# EAGLE library part GIMECHIP-TRS-80-COCO-3-PROGRAM-PAK-CARTRIDGE_COCO3-CARTRIDGE-PLUG (library CC2-32K-EPROM-CARTRIDGE-2012-V2RA)
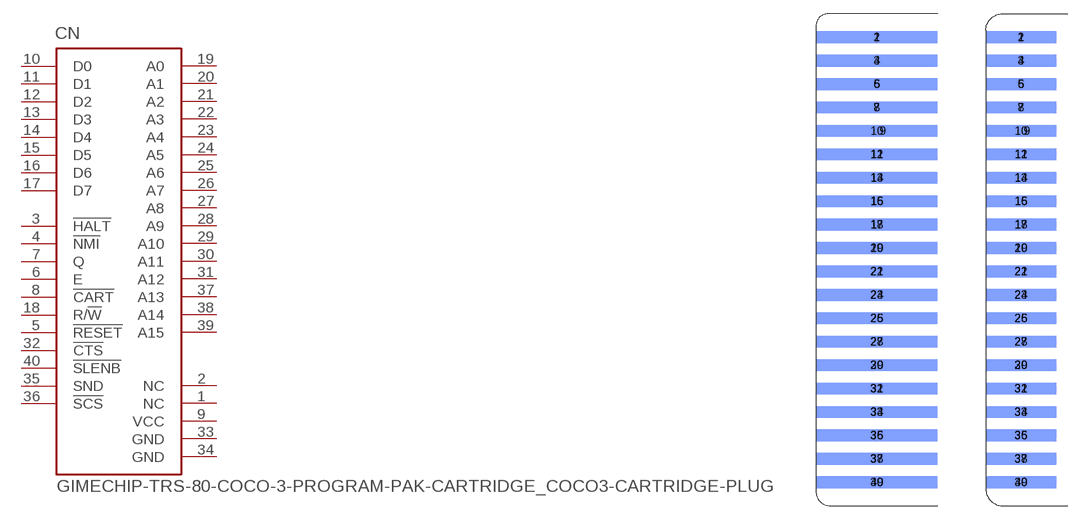
[diagram p1: symbol with the pads of GIMECHIP-TRS-80-COCO-3-PROGRAM-PAK-CARTRIDGE_EDGE-CARD-PLUG-2X20-100-LONG; footprints GIMECHIP-TRS-80-COCO-3-PROGRAM-PAK-CARTRIDGE_EDGE-CARD-PLUG-2X20-100-LONG, GIMECHIP-TRS-80-COCO-3-PROGRAM-PAK-CARTRIDGE_EDGE-CARD-PLUG-2X20-100-MEDIUM]

Designator prefix CN

## GIMECHIP-TRS-80-COCO-3-PROGRAM-PAK-CARTRIDGE_COCO3-CARTRIDGE-PLUG-LONG  [GIMECHIP-TRS-80-COCO-3-PROGRAM-PAK-CARTRIDGE_EDGE-CARD-PLUG-2X20-100-LONG]
1  NC  pas
2  NC  pas
3  !HALT
4  !NMI
5  !RESET
6  E  out
7  Q  out
8  !CART  in
9  VCC  pwr
10  D0
11  D1
12  D2
13  D3
14  D4
15  D5
16  D6
17  D7
18  R/!W
19  A0  out
20  A1  out
21  A2  out
22  A3  out
23  A4  pas
24  A5  out
25  A6  out
26  A7  out
27  A8  out
28  A9  out
29  A10  out
30  A11  out
31  A12  out
32  !CTS  out
33  GND  pwr
34  GND  pwr
35  SND  in
36  !SCS  out
37  A13  out
38  A14  out
39  A15  out
40  !SLENB  in

## GIMECHIP-TRS-80-COCO-3-PROGRAM-PAK-CARTRIDGE_COCO3-CARTRIDGE-PLUG-MEDIUM  [GIMECHIP-TRS-80-COCO-3-PROGRAM-PAK-CARTRIDGE_EDGE-CARD-PLUG-2X20-100-MEDIUM]
Pads as for GIMECHIP-TRS-80-COCO-3-PROGRAM-PAK-CARTRIDGE_EDGE-CARD-PLUG-2X20-100-LONG

## GIMECHIP-TRS-80-COCO-3-PROGRAM-PAK-CARTRIDGE_COCO3-CARTRIDGE-PLUG-SHORT  [GIMECHIP-TRS-80-COCO-3-PROGRAM-PAK-CARTRIDGE_EDGE-CARD-PLUG-2X20-100-SHORT]
Pads as for GIMECHIP-TRS-80-COCO-3-PROGRAM-PAK-CARTRIDGE_EDGE-CARD-PLUG-2X20-100-LONG

## Footprint GIMECHIP-TRS-80-COCO-3-PROGRAM-PAK-CARTRIDGE_EDGE-CARD-PLUG-2X20-100-LONG (pad centres in mm)
CoCo 3 Program Pak Cartridge Plug LONG - http://www.GIMEchip.com/ Tandy Radio Shack TRS-80 Color Computer 3 Program Pak Cartridge Plug (Edge-Card) LONG E.A.G.L.E. Library Part created by John Eric Turner & His Father - sales@gimechip.com <mailto:sales@gimechip.com?subject=Tandy Radio Shack TRS- 80 Color Computer 3 Program Pak Cartridge Plug (Edge-Card) E.A.G.L.E. Library Part> 40-Pin Edge-Card sharing the same pinout as the Program Pak Cartridge Edge-Card Connector.
smd 13.107 x 1.27: 1 7.62,22.86; 3 7.62,20.32; 5 7.62,17.78; 7 7.62,15.24; 11 7.62,10.16; 13 7.62,7.62; 15 7.62,5.08; 17 7.62,2.54; 19 7.62,0; 21 7.62,-2.54; 23 7.62,-5.08; 25 7.62,-7.62; 27 7.62,-10.16; 29 7.62,-12.7; 31 7.62,-15.24; 33 7.62,-17.78; 35 7.62,-20.32; 37 7.62,-22.86; 39 7.62,-25.4
smd 13.107 x 1.27 bottom: 2 7.62,22.86; 4 7.62,20.32; 6 7.62,17.78; 8 7.62,15.24; 10 7.62,12.7; 12 7.62,10.16; 14 7.62,7.62; 16 7.62,5.08; 18 7.62,2.54; 20 7.62,0; 22 7.62,-2.54; 24 7.62,-5.08; 26 7.62,-7.62; 28 7.62,-10.16; 30 7.62,-12.7; 32 7.62,-15.24; 34 7.62,-17.78; 36 7.62,-20.32; 38 7.62,-22.86; 40 7.62,-25.4
smd 11.43 x 1.27: 9 8.255,12.7

## Footprint GIMECHIP-TRS-80-COCO-3-PROGRAM-PAK-CARTRIDGE_EDGE-CARD-PLUG-2X20-100-MEDIUM (pad centres in mm)
CoCo 3 Program Pak Cartridge Plug MEDIUM - http://www.GIMEchip.com/ Tandy Radio Shack TRS-80 Color Computer 3 Program Pak Cartridge Plug (Edge-Card) MEDIUM E.A.G.L.E. Library Part created by John Eric Turner & His Father - sales@gimechip.com <mailto:sales@gimechip.com?subject=Tandy Radio Shack TRS- 80 Color Computer 3 Program Pak Cartridge Plug (Edge-Card) E.A.G.L.E. Library Part> 40-Pin Edge-Card sharing the same pinout as the Program Pak Cartridge Edge-Card Connector.
smd 7.62 x 1.27: 1 3.81,24.13; 3 3.81,21.59; 5 3.81,19.05; 7 3.81,16.51; 11 3.81,11.43; 13 3.81,8.89; 15 3.81,6.35; 17 3.81,3.81; 19 3.81,1.27; 21 3.81,-1.27; 23 3.81,-3.81; 25 3.81,-6.35; 27 3.81,-8.89; 29 3.81,-11.43; 31 3.81,-13.97; 33 3.81,-16.51; 35 3.81,-19.05; 37 3.81,-21.59; 39 3.81,-24.13
smd 7.62 x 1.27 bottom: 2 3.81,24.13; 4 3.81,21.59; 6 3.81,19.05; 8 3.81,16.51; 10 3.81,13.97; 12 3.81,11.43; 14 3.81,8.89; 16 3.81,6.35; 18 3.81,3.81; 20 3.81,1.27; 22 3.81,-1.27; 24 3.81,-3.81; 26 3.81,-6.35; 28 3.81,-8.89; 30 3.81,-11.43; 32 3.81,-13.97; 34 3.81,-16.51; 36 3.81,-19.05; 38 3.81,-21.59; 40 3.81,-24.13
smd 6.35 x 1.27: 9 4.445,13.97

## Footprint GIMECHIP-TRS-80-COCO-3-PROGRAM-PAK-CARTRIDGE_EDGE-CARD-PLUG-2X20-100-SHORT (pad centres in mm)
CoCo 3 Program Pak Cartridge Plug SHORT - http://www.GIMEchip.com/ Tandy Radio Shack TRS-80 Color Computer 3 Program Pak Cartridge Plug (Edge-Card) SHORT E.A.G.L.E. Library Part created by John Eric Turner & His Father - sales@gimechip.com <mailto:sales@gimechip.com?subject=Tandy Radio Shack TRS- 80 Color Computer 3 Program Pak Cartridge Plug (Edge-Card) E.A.G.L.E. Library Part> 40-Pin Edge-Card sharing the same pinout as the Program Pak Cartridge Edge-Card Connector.
smd 3.937 x 1.524: 1 3.81,24.13; 3 3.81,21.59; 5 3.81,19.05; 7 3.81,16.51; 11 3.81,11.43; 13 3.81,8.89; 15 3.81,6.35; 17 3.81,3.81; 19 3.81,1.27; 21 3.81,-1.27; 23 3.81,-3.81; 25 3.81,-6.35; 27 3.81,-8.89; 29 3.81,-11.43; 31 3.81,-13.97; 33 3.81,-16.51; 35 3.81,-19.05; 37 3.81,-21.59; 39 3.81,-24.13
smd 3.937 x 1.524 bottom: 2 3.81,24.13; 4 3.81,21.59; 6 3.81,19.05; 8 3.81,16.51; 10 3.81,13.97; 12 3.81,11.43; 14 3.81,8.89; 16 3.81,6.35; 18 3.81,3.81; 20 3.81,1.27; 22 3.81,-1.27; 24 3.81,-3.81; 26 3.81,-6.35; 28 3.81,-8.89; 30 3.81,-11.43; 32 3.81,-13.97; 34 3.81,-16.51; 36 3.81,-19.05; 38 3.81,-21.59; 40 3.81,-24.13
smd 3.302 x 1.524: 9 4.064,13.97